# EAGLE library part SW-DIP-8 (library Others)
8-Way DIP Switch
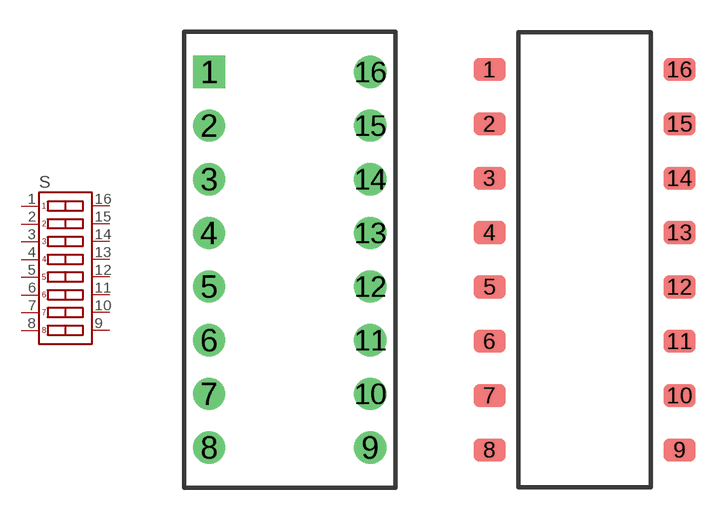
[diagram p0: symbol with the pads of SW-DIP-8-TH; footprints SW-DIP-8-TH, SW-DIP-8-SMD]

Designator prefix S

## SW-DIP-8_(SW-DIP-8-TH) (CYTRON-PC: SW-DIPS-8W; DESC: DIP Switch; VALUE: 8 Ways)  [SW-DIP-8-TH]
1  P$1
2  P$2
3  P$3
4  P$4
5  P$5
6  P$6
7  P$7
8  P$8
9  P$9
10  P$10
11  P$11
12  P$12
13  P$13
14  P$14
15  P$15
16  P$16

## SW-DIP-8_(SW-DIP-8-SMD) (CYTRON-PC: S-SS-DIP-8; DESC: S DIP Switch 8 Ways; MF: DIPTRONICS; MPN: DMR-08(A)(P)-V; VALUE: 8 Ways)  [SW-DIP-8-SMD]
Pads as for SW-DIP-8-TH

## SW-DIP-8_(SW-DIP-8-SMD-1.27) (CYTRON-PC: S-SW-DIPS-8-1.27; DESC: SMD 8 Way DIP Switch - 1.27 Pitch; MPN: DSHP08TSG; VALUE: 8 Ways)  [SW-DIP-8-SMD-1.27]
Pads as for SW-DIP-8-TH

## Footprint SW-DIP-8-TH (pad centres in mm)
8-Way DIP Switch (Through Hole)
drill 0.8 pad 1.524 square: 1 -3.81,8.89
drill 0.8 pad 1.524: 2 -3.81,6.35; 3 -3.81,3.81; 4 -3.81,1.27; 5 -3.81,-1.27; 6 -3.81,-3.81; 7 -3.81,-6.35; 8 -3.81,-8.89; 9 3.81,-8.89; 10 3.81,-6.35; 11 3.81,-3.81; 12 3.81,-1.27; 13 3.81,1.27; 14 3.81,3.81; 15 3.81,6.35; 16 3.81,8.89

## Footprint SW-DIP-8-SMD (pad centres in mm)
8-Way DIP Switch (Surface Mount)
smd 1.499 x 1.092: 1 -4.445,8.89; 2 -4.445,6.35; 3 -4.445,3.81; 4 -4.445,1.27; 5 -4.445,-1.27; 6 -4.445,-3.81; 7 -4.445,-6.35; 8 -4.445,-8.89; 9 4.445,-8.89; 10 4.445,-6.35; 11 4.445,-3.81; 12 4.445,-1.27; 13 4.445,1.27; 14 4.445,3.81; 15 4.445,6.35; 16 4.445,8.89

## Footprint SW-DIP-8-SMD-1.27 (pad centres in mm)
8-Way DIP Switch (Surface Mount) Pitch: 1.27mm Created by: Idris
smd 0.76 x 1.27: 1 -4.445,-3.81; 2 -3.175,-3.81; 3 -1.905,-3.81; 4 -0.635,-3.81; 5 0.635,-3.81; 6 1.905,-3.81; 7 3.175,-3.81; 8 4.445,-3.81; 9 4.445,3.81; 10 3.175,3.81; 11 1.905,3.81; 12 0.635,3.81; 13 -0.635,3.81; 14 -1.905,3.81; 15 -3.175,3.81; 16 -4.445,3.81